# EAGLE library part NUC123SD4AN0-ND (library Logicar Rev 2 Lib)
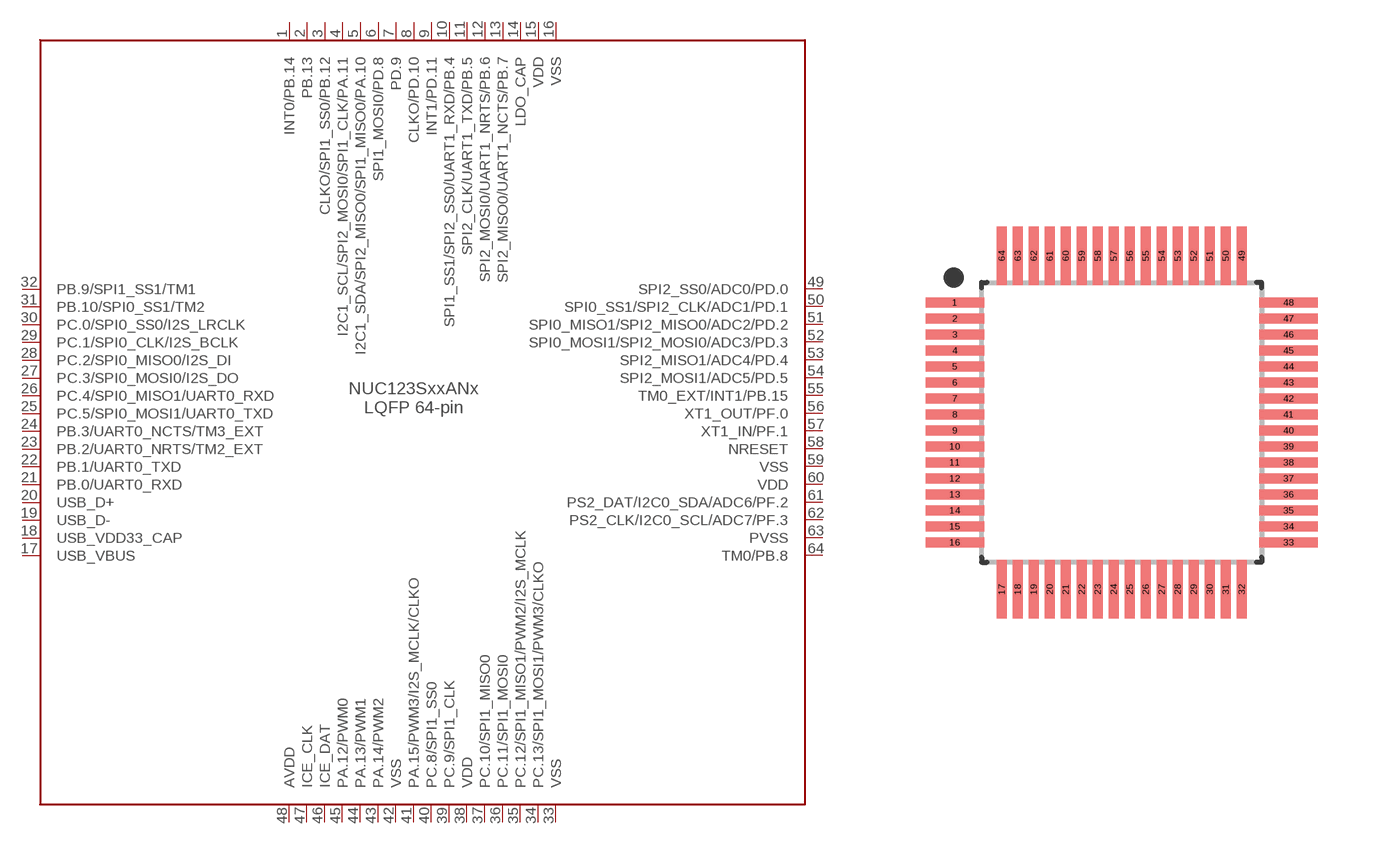
[diagram p0: symbol with the pads of QFP40P900X900X160-64; footprint QFP40P900X900X160-64]

Designator prefix -

## NUC123SD4AN0-ND  [QFP40P900X900X160-64]
1  INT0/PB.14
2  PB.13
3  CLKO/SPI1_SS0/PB.12
4  I2C1_SCL/SPI2_MOSI0/SPI1_CLK/PA.11
5  I2C1_SDA/SPI2_MISO0/SPI1_MISO0/PA.10
6  SPI1_MOSI0/PD.8
7  PD.9
8  CLKO/PD.10
9  INT1/PD.11
10  SPI1_SS1/SPI2_SS0/UART1_RXD/PB.4
11  SPI2_CLK/UART1_TXD/PB.5
12  SPI2_MOSI0/UART1_NRTS/PB.6
13  SPI2_MISO0/UART1_NCTS/PB.7
14  LDO_CAP
15  VDD
16  VSS
17  USB_VBUS
18  USB_VDD33_CAP
19  USB_D-
20  USB_D+
21  PB.0/UART0_RXD
22  PB.1/UART0_TXD
23  PB.2/UART0_NRTS/TM2_EXT
24  PB.3/UART0_NCTS/TM3_EXT
25  PC.5/SPI0_MOSI1/UART0_TXD
26  PC.4/SPI0_MISO1/UART0_RXD
27  PC.3/SPI0_MOSI0/I2S_DO
28  PC.2/SPI0_MISO0/I2S_DI
29  PC.1/SPI0_CLK/I2S_BCLK
30  PC.0/SPI0_SS0/I2S_LRCLK
31  PB.10/SPI0_SS1/TM2
32  PB.9/SPI1_SS1/TM1
33  VSS
34  PC.13/SPI1_MOSI1/PWM3/CLKO
35  PC.12/SPI1_MISO1/PWM2/I2S_MCLK
36  PC.11/SPI1_MOSI0
37  PC.10/SPI1_MISO0
38  VDD
39  PC.9/SPI1_CLK
40  PC.8/SPI1_SS0
41  PA.15/PWM3/I2S_MCLK/CLKO
42  VSS
43  PA.14/PWM2
44  PA.13/PWM1
45  PA.12/PWM0
46  ICE_DAT
47  ICE_CLK
48  AVDD
49  SPI2_SS0/ADC0/PD.0
50  SPI0_SS1/SPI2_CLK/ADC1/PD.1
51  SPI0_MISO1/SPI2_MISO0/ADC2/PD.2
52  SPI0_MOSI1/SPI2_MOSI0/ADC3/PD.3
53  SPI2_MISO1/ADC4/PD.4
54  SPI2_MOSI1/ADC5/PD.5
55  TM0_EXT/INT1/PB.15
56  XT1_OUT/PF.0
57  XT1_IN/PF.1
58  NRESET
59  VSS
60  VDD
61  PS2_DAT/I2C0_SDA/ADC6/PF.2
62  PS2_CLK/I2C0_SCL/ADC7/PF.3
63  PVSS
64  TM0/PB.8

## Footprint QFP40P900X900X160-64 (pad centres in mm)
64-QFP, 0.40 mm pitch, 9.00 mm span, 7.00 X 7.00 X 1.60 mm body 64-pin QFP package with 0.40 mm pitch, 9.00 mm lead span1 X 9.00 mm lead span2 with body size 7.00 X 7.00 X 1.60 mm
smd 1.469 x 0.24: 1 -4.171,3; 2 -4.171,2.6; 3 -4.171,2.2; 4 -4.171,1.8; 5 -4.171,1.4; 6 -4.171,1; 7 -4.171,0.6; 8 -4.171,0.2; 9 -4.171,-0.2; 10 -4.171,-0.6; 11 -4.171,-1; 12 -4.171,-1.4; 13 -4.171,-1.8; 14 -4.171,-2.2; 15 -4.171,-2.6; 16 -4.171,-3; 33 4.171,-3; 34 4.171,-2.6; 35 4.171,-2.2; 36 4.171,-1.8; 37 4.171,-1.4; 38 4.171,-1; 39 4.171,-0.6; 40 4.171,-0.2; 41 4.171,0.2; 42 4.171,0.6; 43 4.171,1; 44 4.171,1.4; 45 4.171,1.8; 46 4.171,2.2; 47 4.171,2.6; 48 4.171,3
smd 0.24 x 1.469: 17 -3,-4.171; 18 -2.6,-4.171; 19 -2.2,-4.171; 20 -1.8,-4.171; 21 -1.4,-4.171; 22 -1,-4.171; 23 -0.6,-4.171; 24 -0.2,-4.171; 25 0.2,-4.171; 26 0.6,-4.171; 27 1,-4.171; 28 1.4,-4.171; 29 1.8,-4.171; 30 2.2,-4.171; 31 2.6,-4.171; 32 3,-4.171; 49 3,4.171; 50 2.6,4.171; 51 2.2,4.171; 52 1.8,4.171; 53 1.4,4.171; 54 1,4.171; 55 0.6,4.171; 56 0.2,4.171; 57 -0.2,4.171; 58 -0.6,4.171; 59 -1,4.171; 60 -1.4,4.171; 61 -1.8,4.171; 62 -2.2,4.171; 63 -2.6,4.171; 64 -3,4.171